# EAGLE library part PCAL6524HEAZ (library PCAL6524HEAZ)
Interface - I/O Expanders PCAL6524HE/HUQFN32///REEL 7 Q2/T3 *STANDARD MARK Source: Datasheet <http://www.nxp.com/docs/en/data-sheet/PCAL6524.pdf>
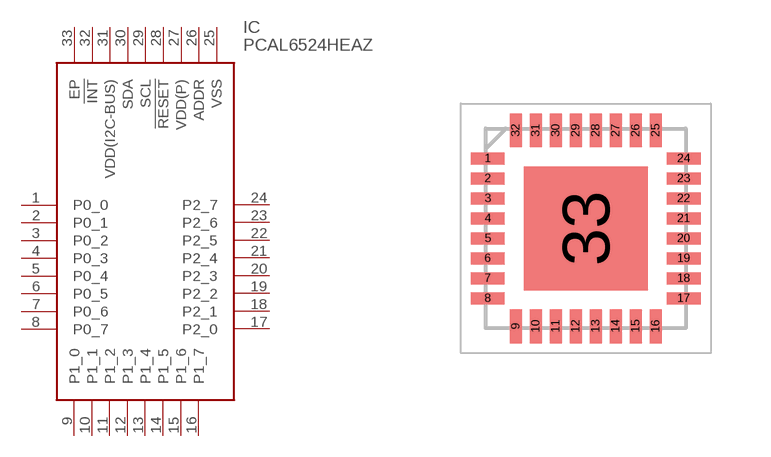
[diagram p0: symbol with the pads of QFN50P500X500X60-33N; footprint QFN50P500X500X60-33N]

Designator prefix IC

## PCAL6524HEAZ (Arrow_Part_Number: PCAL6524HEAZ; Arrow_Price-Stock: https://www.arrow.com/en/products/pcal6524heaz/nxp-semiconductors?region=nac; Description: Interface - I/O Expanders PCAL6524HE/HUQFN32///REEL 7 Q2/T3 *STANDARD MARK; Height: 0.6mm; Manufacturer_Name: NXP; Manufacturer_Part_Number: PCAL6524HEAZ; Mouser_Part_Number: 771-PCAL6524HEAZ; Mouser_Price-Stock: https://www.mouser.co.uk/ProductDetail/NXP-Semiconductors/PCAL6524HEAZ?qs=gH1BdSMZm8UzrKpsyR%252B%2FSg%3D%3D)  [QFN50P500X500X60-33N]
1  P0_0
2  P0_1
3  P0_2
4  P0_3
5  P0_4
6  P0_5
7  P0_6
8  P0_7
9  P1_0
10  P1_1
11  P1_2
12  P1_3
13  P1_4
14  P1_5
15  P1_6
16  P1_7
17  P2_0
18  P2_1
19  P2_2
20  P2_3
21  P2_4
22  P2_5
23  P2_6
24  P2_7
25  VSS
26  ADDR
27  VDD(P)
28  !RESET
29  SCL
30  SDA
31  VDD(I2C-BUS)
32  !INT
33  EP

## Footprint QFN50P500X500X60-33N (pad centres in mm)
SOT1426-1
smd 0.85 x 0.3: 1 -2.45,1.75; 2 -2.45,1.25; 3 -2.45,0.75; 4 -2.45,0.25; 5 -2.45,-0.25; 6 -2.45,-0.75; 7 -2.45,-1.25; 8 -2.45,-1.75; 17 2.45,-1.75; 18 2.45,-1.25; 19 2.45,-0.75; 20 2.45,-0.25; 21 2.45,0.25; 22 2.45,0.75; 23 2.45,1.25; 24 2.45,1.75
smd 0.3 x 0.85: 9 -1.75,-2.45; 10 -1.25,-2.45; 11 -0.75,-2.45; 12 -0.25,-2.45; 13 0.25,-2.45; 14 0.75,-2.45; 15 1.25,-2.45; 16 1.75,-2.45; 25 1.75,2.45; 26 1.25,2.45; 27 0.75,2.45; 28 0.25,2.45; 29 -0.25,2.45; 30 -0.75,2.45; 31 -1.25,2.45; 32 -1.75,2.45
smd 3.1 x 3.1: 33 0,0